# EAGLE library part MOLEX_53307-1871 (library Molex 53307-1871)
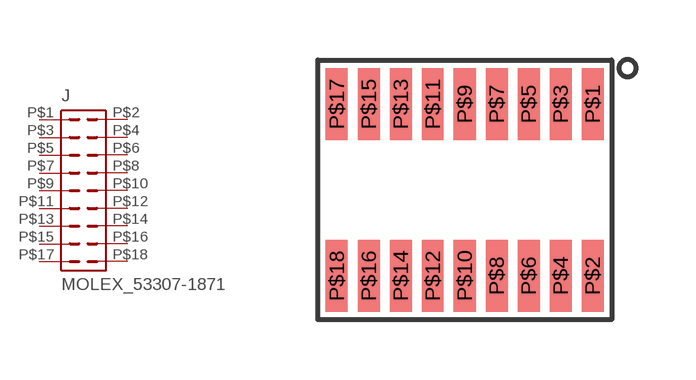
[diagram p0: symbol with the pads of MOLEX_53307-1871; footprint MOLEX_53307-1871]

Designator prefix J

## MOLEX_53307-1871  [MOLEX_53307-1871]
P$1  1  pas
P$2  2  pas
P$3  3  pas
P$4  4  pas
P$5  5  pas
P$6  6  pas
P$7  7  pas
P$8  8  pas
P$9  9  pas
P$10  10  pas
P$11  11  pas
P$12  12  pas
P$13  13  pas
P$14  14  pas
P$15  15  pas
P$16  16  pas
P$17  17  pas
P$18  18  pas

## Footprint MOLEX_53307-1871 (pad centres in mm)
smd 0.55 x 1.8: P$1 3.2,2.15; P$2 3.2,-2.15; P$3 2.4,2.15; P$4 2.4,-2.15; P$5 1.6,2.15; P$6 1.6,-2.15; P$7 0.8,2.15; P$8 0.8,-2.15; P$9 0,2.15; P$10 0,-2.15; P$11 -0.8,2.15; P$12 -0.8,-2.15; P$13 -1.6,2.15; P$14 -1.6,-2.15; P$15 -2.4,2.15; P$16 -2.4,-2.15; P$17 -3.2,2.15; P$18 -3.2,-2.15